# Altium footprint library Module.PcbLib: 24 footprints (part 2 of 2)
Each footprint in its own frame and in the unit in brackets; x right, y up, seen from the top. Pads: shape width x height; smd on the part's side, far side on the other; paste and mask are expansions set on the pad; w line width, h text height; cw(c..) or ccw(c..) is an arc to the next point about the centre after c.
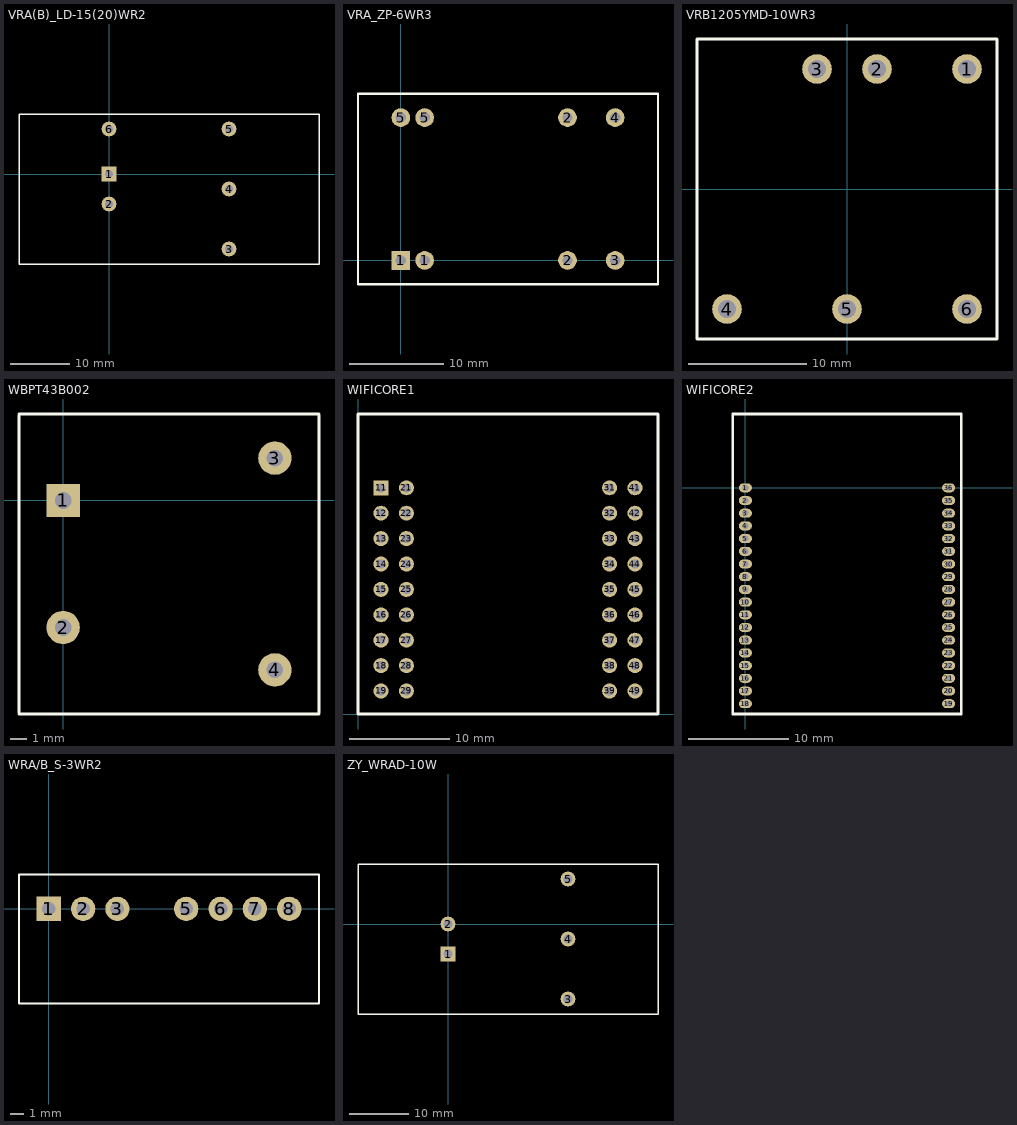
[diagram p1: the footprints below, top view; thin cyan lines are the x and y axes]

## VRA(B)_LD-15(20)WR2 [mm] "DC/DC Power Module 15W  20W MORNSUN VRA(B)_LD-15(20)WR2"
pads (6):
  rect 2.5x2.5 hole 1.3: 1(0,0)
  round 2.5 hole 1.3: 2(0,-5.08) 3(20.32,-12.7) 4(20.32,-2.54) 5(20.32,7.62) 6(0,7.62)
Top Overlay:
  lines w0.254: -15.24,-15.24 35.56,-15.24 35.56,10.16 -15.24,10.16 -15.24,-15.24

## VRA_ZP-6WR3 [mm] "DC/DC Power Module  MORNSUN VRA_ZP-6WR3"
pads (8):
  rect 2x2 hole 1.1: 1(0,0)
  round 2 hole 1.1: 1(2.54,0) 2(17.78,0) 2(17.78,15.24) 3(22.86,0) 4(22.86,15.24) 5(0,15.24) 5(2.54,15.24)
Top Overlay:
  lines w0.254: -4.57,-2.54 27.43,-2.54 27.43,17.78 -4.57,17.78 -4.57,-2.54

## VRB1205YMD-10WR3 [mm] "VRB1205YMD-10WR3"
pads (6):
  round 2.5 hole 1.5: 1(10.16,10.16) 2(2.54,10.16) 3(-2.54,10.16) 4(-10.16,-10.16) 5(0,-10.16) 6(10.16,-10.16)
Top Overlay:
  lines w0.254: -12.7,-12.7 -12.7,12.7 12.7,12.7 12.7,-12.7 -12.7,-12.7

## WBPT43B002 [mm] "WBPT43B002"
pads (4):
  rect 2x2 hole 1: 1(0,0)
  round 2 hole 1: 2(0,-7.62) 3(12.7,2.54) 4(12.7,-10.16)
Top Overlay:
  lines w0.152: -2.65,-12.81 15.35,-12.81 ; -2.65,-12.7 -2.65,5.08 ; -2.65,5.19 15.35,5.19 ; 15.35,-12.7 15.35,5.08

## WIFICORE1 [mm] "zicreate wifi core 1"
pads (36):
  rect 1.5x1.5 hole 0.9: 11(2.3,22.62)
  round 1.5 hole 0.9: 12(2.3,20.08) 13(2.3,17.54) 14(2.3,15) 15(2.3,12.46) 16(2.3,9.92) 17(2.3,7.38) 18(2.3,4.84) 19(2.3,2.3) 21(4.84,22.62) 22(4.84,20.08) 23(4.84,17.54) 24(4.84,15) 25(4.84,12.46) 26(4.84,9.92) 27(4.84,7.38) 28(4.84,4.84) 29(4.84,2.3) 31(25.16,22.62) 32(25.16,20.08) 33(25.16,17.54) 34(25.16,15) 35(25.16,12.46) 36(25.16,9.92) 37(25.16,7.38) 38(25.16,4.84) 39(25.16,2.3) 41(27.7,22.62) 42(27.7,20.08) 43(27.7,17.54) 44(27.7,15) 45(27.7,12.46) 46(27.7,9.92) 47(27.7,7.38) 48(27.7,4.84) 49(27.7,2.3)
Top Overlay:
  lines w0.254: 0,0 0,30 30,30 30,0 0,0

## WIFICORE2 [mm] "zicreate wifi core 2"
pads (36):
  oval 1.3x0.9 hole 0.6: 1(0,0) 2(0,-1.27) 3(0,-2.54) 4(0,-3.81) 5(0,-5.08) 6(0,-6.35) 7(0,-7.62) 8(0,-8.89) 9(0,-10.16) 10(0,-11.43) 11(0,-12.7) 12(0,-13.97) 13(0,-15.24) 14(0,-16.51) 15(0,-17.78) 16(0,-19.05) 17(0,-20.32) 18(0,-21.59) 19(20.32,-21.59) 20(20.32,-20.32) 21(20.32,-19.05) 22(20.32,-17.78) 23(20.32,-16.51) 24(20.32,-15.24) 25(20.32,-13.97) 26(20.32,-12.7) 27(20.32,-11.43) 28(20.32,-10.16) 29(20.32,-8.89) 30(20.32,-7.62) 31(20.32,-6.35) 32(20.32,-5.08) 33(20.32,-3.81) 34(20.32,-2.54) 35(20.32,-1.27) 36(20.32,0)
Top Overlay:
  lines w0.254: -1.27,-22.62 21.59,-22.62 21.59,7.38 -1.27,7.38 -1.27,-22.62

## WRA/B_S-3WR2 [mm] "WRA_S-3WR2,WRB_S-3WR2"
pads (7):
  rect 1.8x1.8 hole 1: 1(0,0)
  round 1.8 hole 1: 2(2.54,0) 3(5.08,0) 5(10.16,0) 6(12.7,0) 7(15.24,0) 8(17.78,0)
Top Overlay:
  lines w0.152: -2.2,-7 -2.2,2.54 19.98,2.54 19.98,-7 -2.2,-7

## ZY_WRAD-10W [mm] "12V   +24V -24V"
pads (5):
  rect 2.5x2.5 hole 1.5: 1(0,-5.08)
  round 2.5 hole 1.5: 2(0,0) 3(20.32,-12.7) 4(20.32,-2.54) 5(20.32,7.62)
Top Overlay:
  lines w0.254: -15.24,-15.24 35.56,-15.24 35.56,10.16 -15.24,10.16 -15.24,-15.24